# Altium schematic symbol library mechanical.SchLib: 36 symbols
Pins are listed as number, name and electrical type; pins without a type are passive.

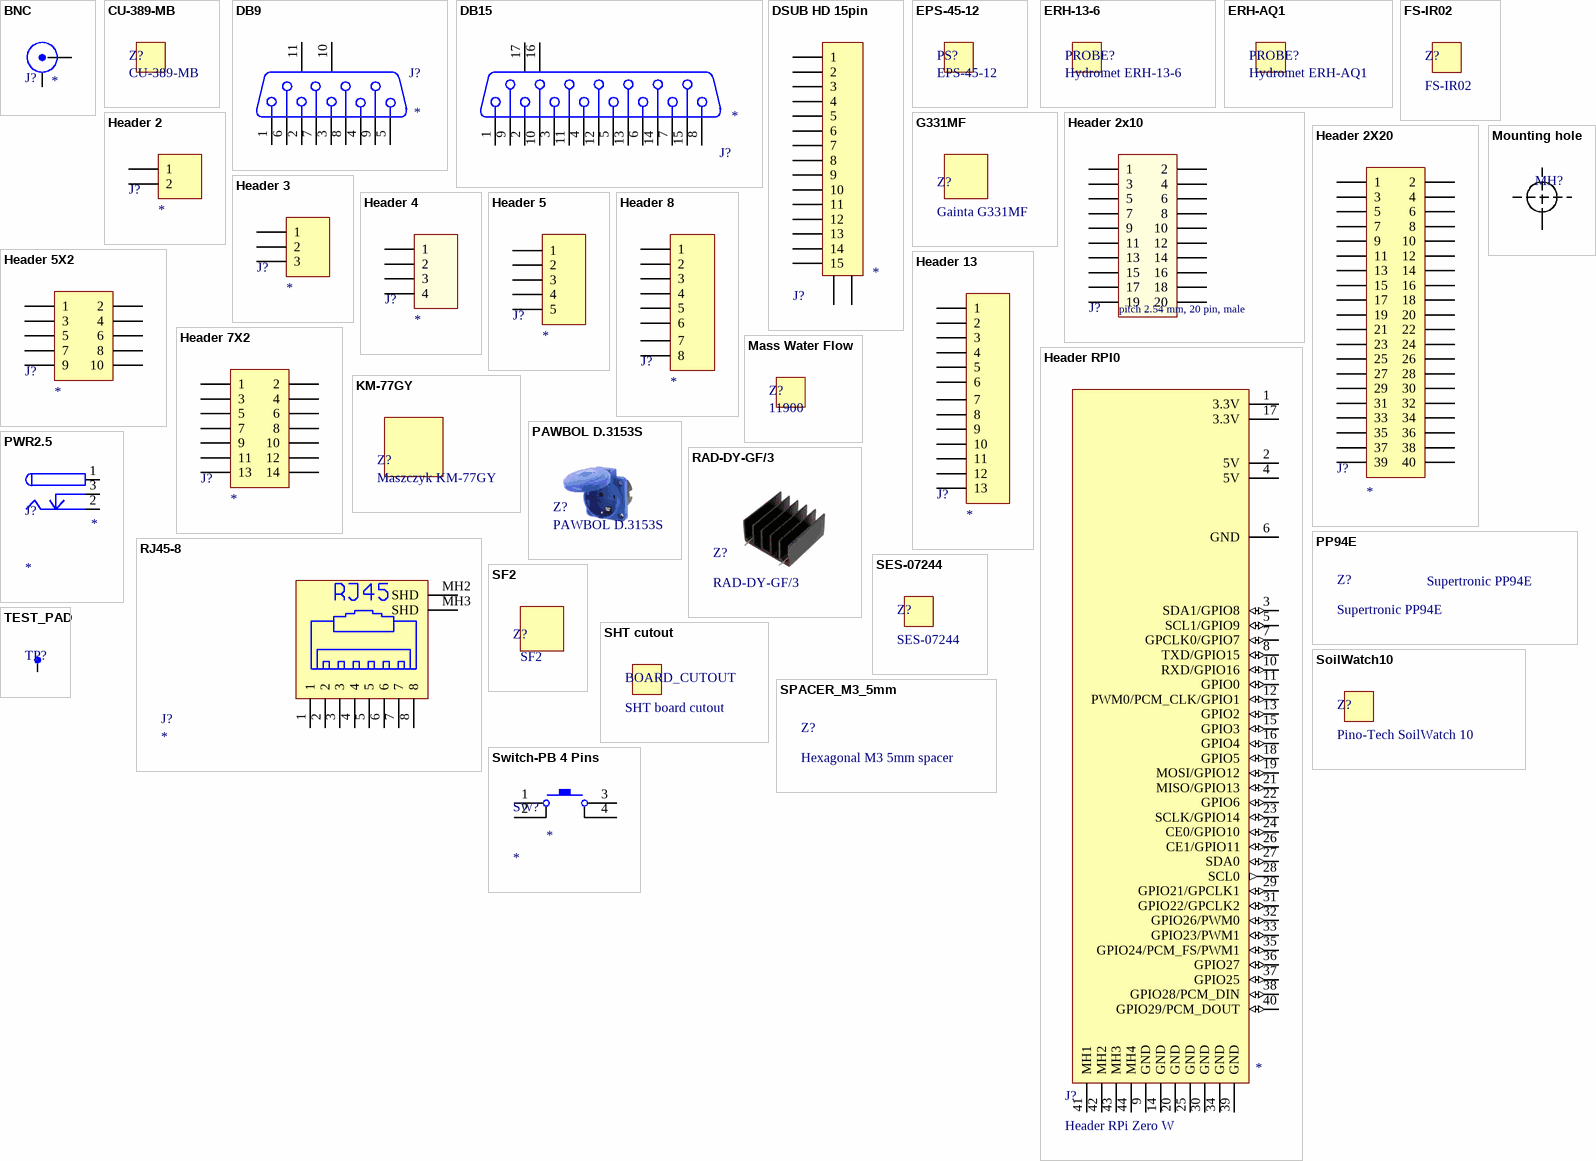
[diagram p0: symbols BNC to TEST_PAD]

## BNC
designator J?  (value not drawn)
BNC Elbow Connector; Value: *
footprint BNC_RA CON (Connector; BNC Elbow)
signal-integrity model Connector
pins: 1 OUT, 2 GND

## CU-389-MB
designator Z?
footprint CU-389-MB

## DB9
designator J?
Receptacle Assembly, 9 Position, Right Angle; Value: *
footprint DSUB1.385-2H9 (Connector; D Subminiature; 9 Position; Right Angle; Pitch 1.385 mm)
signal-integrity model Connector
pins: 1, 2, 3, 4, 5, 6, 7, 8, 9, 10 MH1, 11 MH2

## DB15
designator J?
Receptacle Assembly, 15 Position, Right Angle; Value: *
footprint DSUB1.385-2H15 (Connector; D Subminiature; 15 Position; Right Angle; Pitch 1.385 mm)
signal-integrity model Connector
pins: 1, 2, 3, 4, 5, 6, 7, 8, 9, 10, 11, 12, 13, 14, 15, 16 MH1, 17 MH2

## DSUB HD 15pin
designator J?
DSUB HD 15pin; Value: *
footprint DSUB15F
signal-integrity model Connector
pins: 0, 0, 1, 2, 3, 4, 5, 6, 7, 8, 9, 10, 11, 12, 13, 14, 15

## EPS-45-12
designator PS?  (mechanical)

## ERH-13-6
designator PROBE?, comment Hydromet ERH-13-6  (mechanical)
Hydromet ERH-AQ1 Soil pH probe

## ERH-AQ1
designator PROBE?, comment Hydromet ERH-AQ1  (mechanical)
Hydromet ERH-AQ1 Water pH probe

## FS-IR02
designator Z?
IR Liquid Level Sensor, Vcc 5VDC; Iout = 12mA; Temp. = -25*C - 105*C

## G331MF
designator Z?, comment Gainta G331MF  (mechanical)

## Header 2
designator J?  (value not drawn)
Header, 2-Pin; Value: *
footprint header 5mm 2pin
signal-integrity model Connector
footprint header 2.54mm 2pin
pins: 1, 2

## Header 2x10
designator J?, comment pitch 2.54 mm, 20 pin, male
Header 2.54mm 2x10 pin; Part Number: 61202022323; Insulation Resistance: 1000 MOhm; Pin Number: 20; Contact Resistance: 20 mOhm; Withstanding Voltage: 500 VAC; ComponentLink1Description: Manufacturer; ComponentLink1URL: http://www.we-online.de; ComponentLink2Description: Datasheet; ComponentLink2URL: http://katalog.we-online.de/em/datasheet/6120xx22323.pdf; Published Date: May 2018; Publisher: Wurth Elektronik; Pitch: 2.54 mm; Operating Temperature: -40 to 125 degC; Mounting Technology: THT; Packaging: Tray
footprint IDC2.54-V20D (Connector; IDC, Low Profile Male Header, Thru-Hole; 14 Position; Vertical; Pitch 2.54 mm; Body 25.40 x 9.2 x 9.45 mm (LxWxH))
pins: 1, 2, 3, 4, 5, 6, 7, 8, 9, 10, 11, 12, 13, 14, 15, 16, 17, 18, 19, 20

## Header 2X20
designator J?  (value not drawn)
Header, 20-Pin, Dual row; Value: *
signal-integrity model Connector
footprint Header 2.54mm 2X20
pins: 1, 1 15, 2, 2 16, 3, 3 17, 4, 4 18, 5, 5 19, 6, 6 20, 7, 7 21, 8, 8 22, 9, 9 23, 10, 10 24, 11, 11 25, 12, 12 26, 13, 13 27, 14, 14 28, 15 29, 16 30, 17 31, 18 32, 19 33, 20 34, 21 35, 22 36, 23 37, 24 38, 25 39, 26 40

## Header 3
designator J?
Header, 3-Pin; Value: *
footprint HDR1X3H (Connector; Header; 3 Position; Right Angle)
signal-integrity model Connector
pins: 1, 2, 3

## Header 4
designator J?
Header, 4-Pin; Value: *
signal-integrity model Connector
pins: 1, 2, 3, 4

## Header 5
designator J?
Header, 5-Pin; Value: *
signal-integrity model Connector
footprint header 2.54mm 5pin
pins: 1, 2, 3, 4, 5

## Header 5X2
designator J?  (value not drawn)
Header, 5-Pin, Dual row; Value: *
footprint IDC2.54-V10D
signal-integrity model Connector
pins: 1, 2, 3, 4, 5, 6, 7, 8, 9, 10

## Header 7X2
designator J?  (value not drawn)
Header, 7-Pin, Dual row; Value: *
footprint HDR2X7 (Connector; Header; 7x2 Position)
signal-integrity model Connector
pins: 1, 2, 3, 4, 5, 6, 7, 8, 9, 10, 11, 12, 13, 14

## Header 8
designator J?
Header, 8-Pin; Value: *
signal-integrity model Connector
footprint header 2.54mm 8pin
pins: 1, 2, 3, 4, 5, 6, 7, 8

## Header 13
designator J?
Header 13 pin; Value: *
footprint header 2.54mm 13pin
signal-integrity model Connector
pins: 1, 2, 3, 4, 5, 6, 7, 8, 9, 10, 11, 12, 13

## Header RPI0
designator J?, comment Header RPi Zero W
Value: *
footprint Header RPI0
pins: 1 3.3V (power), 2 5V (power), 3 SDA1/GPIO8 (io), 4 5V (power), 5 SCL1/GPIO9 (io), 6 GND (power), 7 GPCLK0/GPIO7 (io), 8 TXD/GPIO15 (io), 9 GND (power), 10 RXD/GPIO16 (io), 11 GPIO0 (io), 12 PWM0/PCM_CLK/GPIO1 (io), 13 GPIO2 (io), 14 GND (power), 15 GPIO3 (io), 16 GPIO4 (io), 17 3.3V (power), 18 GPIO5 (io), 19 MOSI/GPIO12 (io), 20 GND (power), 21 MISO/GPIO13 (io), 22 GPIO6 (io), 23 SCLK/GPIO14 (io), 24 CE0/GPIO10 (io), 25 GND (power), 26 CE1/GPIO11 (io), 27 SDA0 (io), 28 SCL0 (out), 29 GPIO21/GPCLK1 (io), 30 GND (power), 31 GPIO22/GPCLK2 (io), 32 GPIO26/PWM0 (io), 33 GPIO23/PWM1 (io), 34 GND (power), 35 GPIO24/PCM_FS/PWM1 (io), 36 GPIO27 (io), 37 GPIO25 (io), 38 GPIO28/PCM_DIN (io), 39 GND (power), 40 GPIO29/PCM_DOUT (io), 41 MH1, 42 MH2, 43 MH3, 44 MH4

## KM-77GY
designator Z?, comment Maszczyk KM-77GY
X:80mm; Y:120mm; Z:31mm; ABS; gray
footprint KM-77GY

## Mass Water Flow
designator Z?, comment 11900  (graphical)
Electropark 11900, Przepływomierz 0.15-3L/min czujnik przepływu typ 2

## Mounting hole
designator MH?  (value not drawn)
footprint MH_M3 (M3 3mm hole)
footprint MH_M2.5 (M2.5)
pins: MH

## PAWBOL D.3153S
designator Z?  (mechanical)

## PP94E
designator Z?, comment Supertronic PP94E
Value: Supertronic PP94E
footprint PP94E

## PWR2.5
designator J?
Low Voltage Power Supply Connector; ComponentLink1Description: Manufacturer Link; ComponentLink1URL: http://domino.kycon.com/internet/Products.html; Value: *
footprint WE_WR_DC_694106301002
signal-integrity model Connector
pins: 1 (power), 2 (power), 3 (power)

## RAD-DY-GF/3
designator Z?
footprint Radiator (RAD-DY-GF/3)

## RJ45-8
designator J?  (value not drawn)
RJ45 Socket, 8pin, No Key, Molex MX-95001-2881; Value: *
footprint RJ45-8_SHIELDED
pins: 1, 2, 3, 4, 5, 6, 7, 8, MH2 SHD, MH3 SHD
2 alternate drawings of the same symbol

## SES-07244
designator Z?
Czujnik poziomu cieczy z kontaktronem, Imax = 0,5A; Rezystancja kontaktronu = 100Ohm; 1MPa; temp. -30*C - 125*C; Vmax = 110VDC

## SF2
designator Z?, comment value SF2  (hidden comment: SF2 Filter Cap)
SF2 Filter Cap  Filter Cap for Humidity &  Temperature Sensors SHT2x
footprint SF2

## SHT cutout
designator BOARD_CUTOUT, comment SHT board cutout
footprint SHT_cutout

## SoilWatch10
designator Z?, comment Pino-Tech SoilWatch 10
Capacitance Water Soil Sensor, 75MHz; Vcc - 3,1- 5VDC; Vout - analog 0-3VDC; Ioutmax = 24mA; Temp. = 2*C - 45*C; IP67

## SPACER_M3_5mm
designator Z?, comment Hexagonal M3 5mm spacer
footprint SPACER_M3_5mm

## Switch-PB 4 Pins
designator SW?
Switch 4 Pins; Value: *
footprint SPST_NO_1301 (Micro Switch case 1301)
pins: 1, 2, 3, 4

## TEST_PAD
designator TP?, comment TEST PAD  (value not drawn)
PAD 1.5mm
footprint PIN (Test Pad)
pins: 1